# EAGLE library part MICRO_USB_B_MALE_HIROSE_ZX80-B-5S (library connector)
CONN PLUG MCR USB B PCB VERT
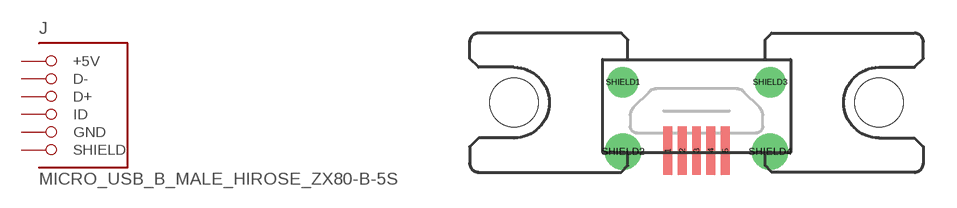
[diagram p2: symbol with the pads of USB_MICRO_B_MALE-HIROSE-ZX80-B-5S; footprint USB_MICRO_B_MALE-HIROSE-ZX80-B-5S]

Designator prefix J

## MICRO_USB_B_MALE_HIROSE_ZX80-B-5S (DIGIKEY: H11612-ND)  [USB_MICRO_B_MALE-HIROSE-ZX80-B-5S]
1  +5V
2  D-
3  D+
4  ID
5  GND
SHIELD1  SHIELD
SHIELD2  SHIELD
SHIELD3  SHIELD
SHIELD4  SHIELD

## Footprint USB_MICRO_B_MALE-HIROSE-ZX80-B-5S (pad centres in mm)
USB Male Micro B
smd 0.4 x 2.2: 1 -1.3,-1.8; 2 -0.65,-1.8; 3 0,-1.8; 4 0.65,-1.8; 5 1.3,-1.8
drill 0.762 pad 1.397: SHIELD1 -3.325,1.29; SHIELD3 3.325,1.29
drill 1.016 pad 1.651: SHIELD2 -3.325,-1.86; SHIELD4 3.325,-1.86
hole 2.2 at -8.252,0.37
hole 2.2 at 8.252,0.37